# EAGLE library part MCM68764 (library COCO2Library)
MCM68764
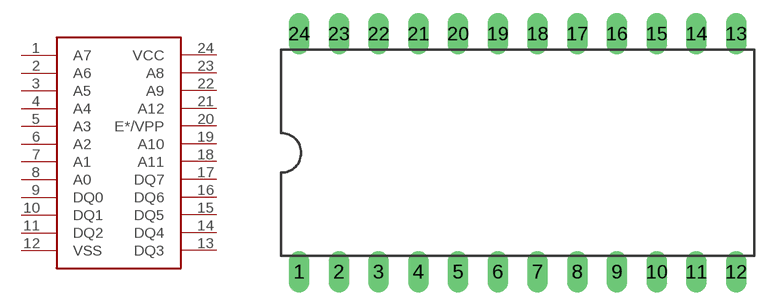
[diagram p1: symbol with the pads of DIL24-6; footprint DIL24-6]

Designator prefix -

## MCM68764  [DIL24-6]
1  A7
2  A6
3  A5
4  A4
5  A3
6  A2
7  A1
8  A0
9  DQ0
10  DQ1
11  DQ2
12  VSS
13  DQ3
14  DQ4
15  DQ5
16  DQ6
17  DQ7
18  A11
19  A10
20  E*/VPP
21  A12
22  A9
23  A8
24  VCC

## Footprint DIL24-6 (pad centres in mm)
Dual In Line Package 0.6 inch
drill 0.813 long: 1 -13.97,-7.62; 2 -11.43,-7.62; 3 -8.89,-7.62; 4 -6.35,-7.62; 5 -3.81,-7.62; 6 -1.27,-7.62; 7 1.27,-7.62; 8 3.81,-7.62; 9 6.35,-7.62; 10 8.89,-7.62; 11 11.43,-7.62; 12 13.97,-7.62; 13 13.97,7.62; 14 11.43,7.62; 15 8.89,7.62; 16 6.35,7.62; 17 3.81,7.62; 18 1.27,7.62; 19 -1.27,7.62; 20 -3.81,7.62; 21 -6.35,7.62; 22 -8.89,7.62; 23 -11.43,7.62; 24 -13.97,7.62